# Altium footprint library boost_converter_PcbLib1.PcbLib: 2 footprints
Each footprint in its own frame and in the unit in brackets; x right, y up, seen from the top. Pads: shape width x height; smd on the part's side, far side on the other; paste and mask are expansions set on the pad; w line width, h text height; cw(c..) or ccw(c..) is an arc to the next point about the centre after c.
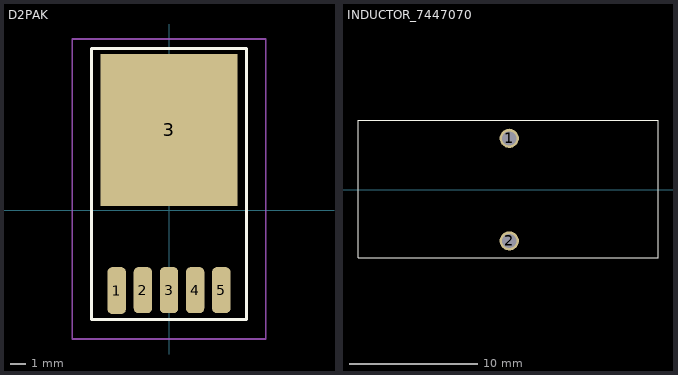
[diagram p0: the footprints below, top view; thin cyan lines are the x and y axes]

## D2PAK [mm]
pads (6):
  rrect50% 1.2x3.075 smd: 1(-3.429,-5.27)
  rrect50% 1.2x3.015 smd: 2(-1.714,-5.24) 3(0,-5.24) 4(1.714,-5.24) 5(3.429,-5.24)
  rect 9x10 smd: 3(0,5.271)
Top Overlay:
  lines w0.2: -5.08,-7.175 5.08,-7.175 5.08,10.605 -5.08,10.605 -5.08,0.445 -5.08,-7.175
Mechanical 15:
  lines w0.1: -1.524,3.62 1.524,3.62 ; 0,2.096 0,5.144 ; -6.35,-8.445 6.35,-8.445 6.35,11.24 -6.35,11.24 -6.35,1.588 -6.35,-8.445
3D body "TO263-5-1.stp": height 4.22, standoff 0, extent -4.911,-5.941 4.911,8.661

## INDUCTOR_7447070 [mm]
pads (2):
  round 1.5 hole 1.1: 1(14.1,4) 2(14.1,-4)
Top Overlay:
  lines w0.076: 2.3,-5.3 25.7,-5.3 25.7,5.4 2.3,5.4 2.3,-5.3
3D body "inductor_7447070.stp": height 26.21, standoff -10.69, extent 2.891,-4.5 25.309,4.493